# Altium schematic symbol library TB6600HG.SchLib: 14 symbols
Pins are listed as number, name and electrical type; pins without a type are passive.

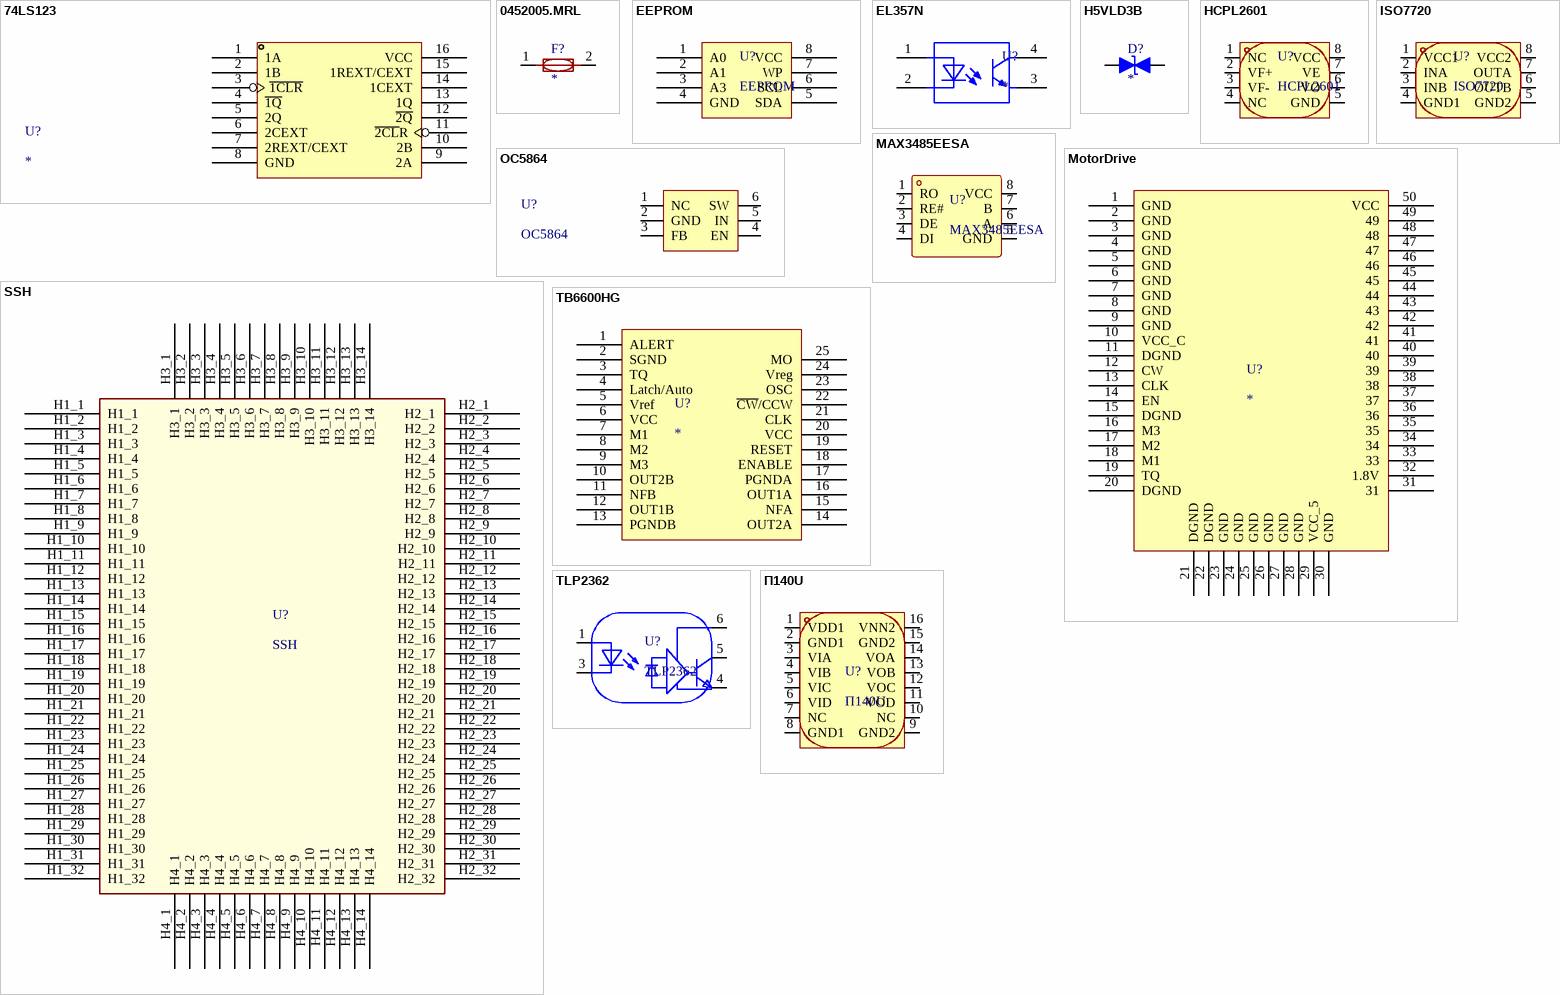
[diagram p0: symbols 74LS123 to Π140U]

## 74LS123
designator U?
footprint 74LS123
pins: 1 1A, 2 1B, 3 ~{1CLR}, 4 ~{1Q}, 5 2Q, 6 2CEXT, 7 2REXT/CEXT, 8 GND, 9 2A, 10 2B, 11 ~{2CL}R, 12 ~{2Q}, 13 1Q, 14 1CEXT, 15 1REXT/CEXT, 16 VCC

## 0452005.MRL
designator F?
一次性保险丝
footprint 一次性保险丝
pins: 1, 2

## EEPROM
designator U?
IC
footprint EEPROM
pins: 1 A0, 2 A1, 3 A3, 4 GND, 5 SDA, 6 SCL, 7 WP, 8 VCC

## EL357N
designator U?
光耦
footprint EL357N
pins: 1, 2, 3, 4

## H5VLD3B
designator D?
H5VLD3B
footprint SOD-323
pins: 1, 2

## HCPL2601
designator U?
光耦
footprint HCPL2601
pins: 1 NC, 2 VF+, 3 VF-, 4 NC, 5 GND, 6 VO, 7 VE, 8 VCC

## ISO7720
designator U?
IC
footprint ISO7720
pins: 1 VCC1, 2 INA, 3 INB, 4 GND1, 5 GND2, 6 OUTB, 7 OUTA, 8 VCC2

## MAX3485EESA
designator U?
IC
footprint MAX3485EESA
pins: 1 RO, 2 RE#, 3 DE, 4 DI, 5 GND, 6 A, 7 B, 8 VCC

## MotorDrive
designator U?
电机驱动板
pins: 1 GND, 2 GND, 3 GND, 4 GND, 5 GND, 6 GND, 7 GND, 8 GND, 9 GND, 10 VCC_C, 11 DGND, 12 CW, 13 CLK, 14 EN, 15 DGND, 16 M3, 17 M2, 18 M1, 19 TQ, 20 DGND, 21 DGND, 22 DGND, 23 GND, 24 GND, 25 GND, 26 GND, 27 GND, 28 GND, 29 VCC_5, 30 GND, 31, 32 1.8V, 33, 34, 35, 36, 37, 38, 39, 40, 41, 42, 43, 44, 45, 46, 47, 48, 49, 50 VCC

## OC5864
designator U?
DC-DC降压芯片
footprint OC5864
pins: 1 NC, 2 GND, 3 FB, 4 EN, 5 IN, 6 SW

## SSH
designator U?
Zynq核心板
footprint SSH
pins: H1_1, H1_2, H1_3, H1_4, H1_5, H1_6, H1_7, H1_8, H1_9, H1_10, H1_11, H1_12, H1_13, H1_14, H1_15, H1_16, H1_17, H1_18, H1_19, H1_20, H1_21, H1_22, H1_23, H1_24, H1_25, H1_26, H1_27, H1_28, H1_29, H1_30, H1_31, H1_32, H2_1, H2_2, H2_3, H2_4, H2_5, H2_6, H2_7, H2_8, H2_9, H2_10, H2_11, H2_12, H2_13, H2_14, H2_15, H2_16, H2_17, H2_18, H2_19, H2_20, H2_21, H2_22, H2_23, H2_24, H2_25, H2_26, H2_27, H2_28, H2_29, H2_30, H2_31, H2_32, H3_1, H3_2, H3_3, H3_4, H3_5, H3_6, H3_7, H3_8, H3_9, H3_10, H3_11, H3_12, H3_13, H3_14, H4_1, H4_2, H4_3, H4_4, H4_5, H4_6, H4_7, H4_8, H4_9, H4_10, H4_11, H4_12, H4_13, H4_14

## TB6600HG
designator U?
TB6600HG
footprint TB6600HG
pins: 1 ALERT, 2 SGND, 3 TQ, 4 Latch/Auto, 5 Vref, 6 VCC, 7 M1, 8 M2, 9 M3, 10 OUT2B, 11 NFB, 12 OUT1B, 13 PGNDB, 14 OUT2A, 15 NFA, 16 OUT1A, 17 PGNDA, 18 ENABLE, 19 RESET, 20 VCC, 21 CLK, 22 ~{CW}/CCW, 23 OSC, 24 Vreg, 25 MO

## TLP2362
designator U?
光耦
footprint TLP2362
pins: 1, 3, 4, 5, 6

## Π140U
designator U?
数字隔离芯片
footprint Π140U
pins: 1 VDD1, 2 GND1, 3 VIA, 4 VIB, 5 VIC, 6 VID, 7 NC, 8 GND1, 9 GND2, 10 NC, 11 VOD, 12 VOC, 13 VOB, 14 VOA, 15 GND2, 16 VNN2